# Altium schematic symbol library 1N5819.SchLib: 1 symbol
Pins are listed as number, name and electrical type; pins without a type are passive.

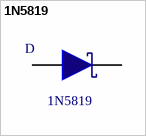
[diagram p0: symbol 1N5819]

## 1N5819
designator D  value 1N5819  (hidden comment: *)
Manufacturer Code: 1N5819HW-7-F; Manufacturer: DIODES INC.; Voltage: 40V; Forward Current: 1A; Unit Price: 0,55 €; Farnell Code: 1773475
footprint SOD80C
pins: 1, 2